# Altium footprint library T35_V2.PcbLib: 35 footprints (part 2 of 3)
Each footprint in its own frame and in the unit in brackets; x right, y up, seen from the top. Pads: shape width x height; smd on the part's side, far side on the other; paste and mask are expansions set on the pad; w line width, h text height; cw(c..) or ccw(c..) is an arc to the next point about the centre after c.
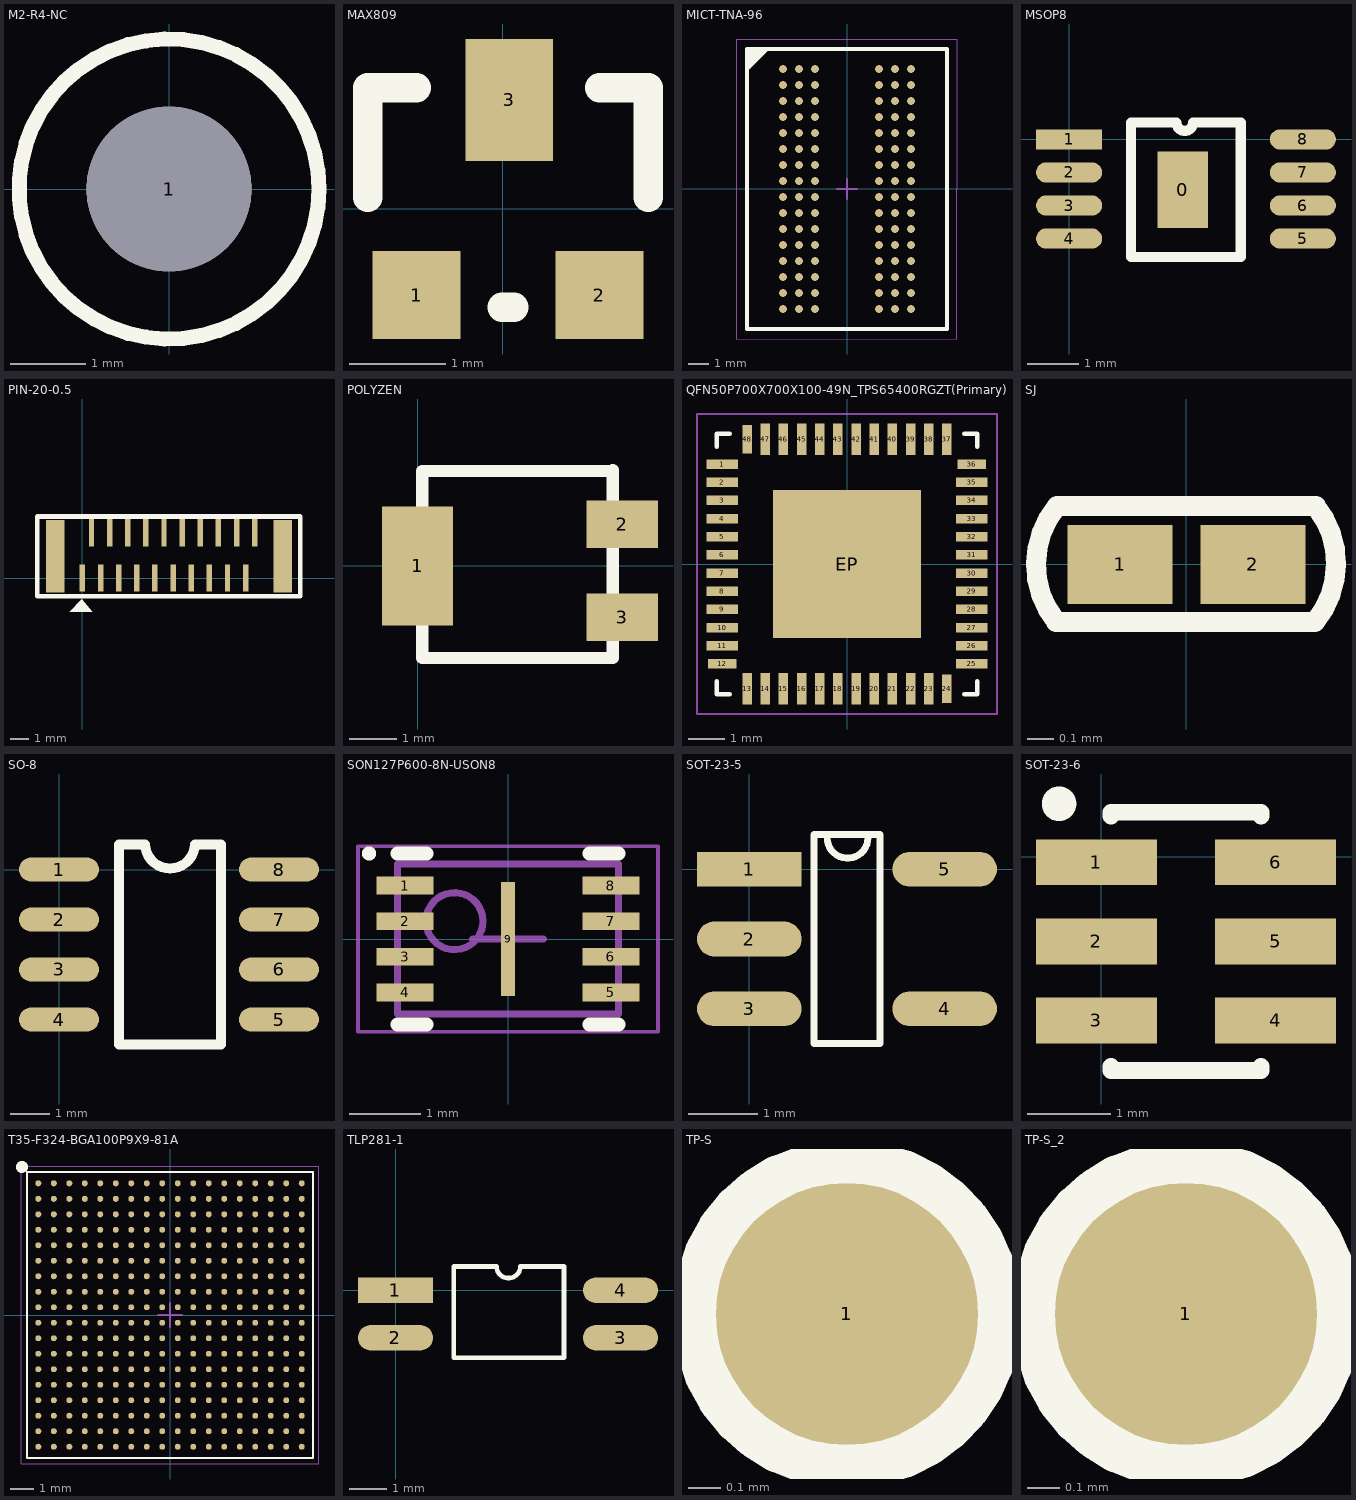
[diagram p1: the footprints below, top view; thin cyan lines are the x and y axes]

## M2-R4-NC [mm]
height 1.2
pads (1):
  round 2.2 hole 2.2: 1(0,0)
Top Overlay:
  circle w0.2: c0,0 r2

## MAX809 [mil]
height 248.03
pads (3):
  rect 36x36 smd: 1(-35.43,-35.43) 2(39.57,-35.43)
  rect 36x50 smd: 3(2.57,44.57)
Top Overlay:
  lines w12: -55.43,4.57 -55.43,49.57 -35.43,49.57 ; -0.43,-40.43 4.57,-40.43 ; 39.57,49.57 59.57,49.57 59.57,4.57
3D body "User Library-SOT23-2.STEP": height 42.52, standoff 0, extent -56.48,-41.4 61.63,62.54

## MICT-TNA-96 [mm] "BGA, 96-Balls, Body 14x10mm, Pitch 0.8mm"
pads (96):
  round 0.4 smd: A1(-3.2,6) A2(-2.4,6) A3(-1.6,6) A7(1.6,6) A8(2.4,6) A9(3.2,6) B1(-3.2,5.2) B2(-2.4,5.2) B3(-1.6,5.2) B7(1.6,5.2) B8(2.4,5.2) B9(3.2,5.2) C1(-3.2,4.4) C2(-2.4,4.4) C3(-1.6,4.4) C7(1.6,4.4) C8(2.4,4.4) C9(3.2,4.4) D1(-3.2,3.6) D2(-2.4,3.6) D3(-1.6,3.6) D7(1.6,3.6) D8(2.4,3.6) D9(3.2,3.6) E1(-3.2,2.8) E2(-2.4,2.8) E3(-1.6,2.8) E7(1.6,2.8) E8(2.4,2.8) E9(3.2,2.8) F1(-3.2,2) F2(-2.4,2) F3(-1.6,2) F7(1.6,2) F8(2.4,2) F9(3.2,2) G1(-3.2,1.2) G2(-2.4,1.2) G3(-1.6,1.2) G7(1.6,1.2) G8(2.4,1.2) G9(3.2,1.2) H1(-3.2,0.4) H2(-2.4,0.4) H3(-1.6,0.4) H7(1.6,0.4) H8(2.4,0.4) H9(3.2,0.4) J1(-3.2,-0.4) J2(-2.4,-0.4) J3(-1.6,-0.4) J7(1.6,-0.4) J8(2.4,-0.4) J9(3.2,-0.4) K1(-3.2,-1.2) K2(-2.4,-1.2) K3(-1.6,-1.2) K7(1.6,-1.2) K8(2.4,-1.2) K9(3.2,-1.2) L1(-3.2,-2) L2(-2.4,-2) L3(-1.6,-2) L7(1.6,-2) L8(2.4,-2) L9(3.2,-2) M1(-3.2,-2.8) M2(-2.4,-2.8) M3(-1.6,-2.8) M7(1.6,-2.8) M8(2.4,-2.8) M9(3.2,-2.8) N1(-3.2,-3.6) N2(-2.4,-3.6) N3(-1.6,-3.6) N7(1.6,-3.6) N8(2.4,-3.6) N9(3.2,-3.6) P1(-3.2,-4.4) P2(-2.4,-4.4) P3(-1.6,-4.4) P7(1.6,-4.4) P8(2.4,-4.4) P9(3.2,-4.4) R1(-3.2,-5.2) R2(-2.4,-5.2) R3(-1.6,-5.2) R7(1.6,-5.2) R8(2.4,-5.2) R9(3.2,-5.2) T1(-3.2,-6) T2(-2.4,-6) T3(-1.6,-6) T7(1.6,-6) T8(2.4,-6) T9(3.2,-6)
Top Overlay:
  region: -4,7 -5,6 -5,7
  lines w0.2: -5,6 -4,7 ; -5,-7 -5,7 5,7 5,-7 -5,-7
Mechanical 13:
  lines w0.1: -5,-7 -5,7 5,7 5,-7 -5,-7
Mechanical 15:
  lines w0.05: -5.5,-7.5 -5.5,7.5 5.5,7.5 5.5,-7.5 -5.5,-7.5
  lines w0.1: -0.5,0 0.5,0 ; 0,-0.5 0,0.5
3D body: height 0.25, standoff 0, extent -5,-7 5,7

## MSOP8 [mm]
pads (9):
  rect 1x1.5 smd: 0(2.235,-0.991)
  rect 1.3x0.4 smd: 1(0,0)
  oval 1.3x0.4 smd: 2(0,-0.65) 3(0,-1.3) 4(0,-1.95) 5(4.6,-1.95) 6(4.6,-1.3) 7(4.6,-0.65) 8(4.6,0)
Top Overlay:
  lines w0.2: 1.219,0.325 1.219,-2.311 3.378,-2.311 3.378,0.325 ; 1.219,0.33 2.108,0.33 ; 2.113,0.33 ccw(c2.276,0.33) 2.438,0.33 3.378,0.33
3D body "User Library-User Library-MSOP-8-1.STEP": height 0.92, standoff 0, extent -0.239,-2.465 4.761,0.535

## PIN-20-0.5 [mm]
pads (22):
  rect 0.3x1.5 smd: 1(0,0) 2(0.5,2.5) 3(1,0) 4(1.5,2.5) 5(2,0) 6(2.5,2.5) 7(3,0) 8(3.5,2.5) 9(4,0) 10(4.5,2.5) 11(5,0) 12(5.5,2.5) 13(6,0) 14(6.5,2.5) 15(7,0) 16(7.5,2.5) 17(8,0) 18(8.5,2.5) 19(9,0) 20(9.5,2.5)
  rect 1x4 smd: ""(-1.5,1.2) ""(11.049,1.194)
Top Overlay:
  region: -0.025,-1.156 -0.711,-1.841 0.533,-1.841
  lines w0.254: -2.489,-1 -2.489,3.4 12.014,3.4 12.014,-1 -2.489,-1
3D body "62674201121alf.stp": height 4.03, standoff -0.07, extent -2.5,-0.353 12,3.047

## POLYZEN [mm]
pads (3):
  rect 1.5x2.5 smd: 1(0,0)
  rect 1.5x1 smd: 2(4.3,0.875) 3(4.3,-1.075)
Top Overlay:
  lines w0.254: 4.1,-1.93 4.1,2.01 4.08,1.99 0.1,1.99 0.1,-1.93 4.1,-1.93 ; 4.1,-1.93 4.1,-1.93
3D body "PolyZen.STEP": height 2, standoff 0, extent 0.06,-1.88 4.06,2.12

## QFN50P700X700X100-49N_TPS65400RGZT(Primary) [mm]
pads (49):
  rect 0.88x0.26 smd mask+0.025: 1(-3.435,2.75) 2(-3.435,2.25) 3(-3.435,1.75) 4(-3.435,1.25) 5(-3.435,0.75) 6(-3.435,0.25) 7(-3.435,-0.25) 8(-3.435,-0.75) 9(-3.435,-1.25) 10(-3.435,-1.75) 11(-3.435,-2.25) 25(3.435,-2.75) 26(3.435,-2.25) 27(3.435,-1.75) 28(3.435,-1.25) 29(3.435,-0.75) 30(3.435,-0.25) 31(3.435,0.25) 32(3.435,0.75) 33(3.435,1.25) 34(3.435,1.75) 35(3.435,2.25)
  rect 0.78x0.26 smd mask+0.025: 12(-3.435,-2.75) 36(3.435,2.75)
  rect 0.26x0.88 smd mask+0.025: 13(-2.75,-3.435) 14(-2.25,-3.435) 15(-1.75,-3.435) 16(-1.25,-3.435) 17(-0.75,-3.435) 18(-0.25,-3.435) 19(0.25,-3.435) 20(0.75,-3.435) 21(1.25,-3.435) 22(1.75,-3.435) 23(2.25,-3.435) 37(2.75,3.435) 38(2.25,3.435) 39(1.75,3.435) 40(1.25,3.435) 41(0.75,3.435) 42(0.25,3.435) 43(-0.25,3.435) 44(-0.75,3.435) 45(-1.25,3.435) 46(-1.75,3.435) 47(-2.25,3.435)
  rect 0.26x0.78 smd mask+0.025: 24(2.75,-3.435) 48(-2.75,3.435)
  rect 4.08x4.08 smd mask+0.025: EP(0,0)
Top Overlay:
  lines w0.127: -3.581,-3.226 -3.581,-3.581 -3.226,-3.581 ; -3.581,3.226 -3.581,3.581 -3.226,3.581 ; 3.226,-3.581 3.581,-3.581 3.581,-3.226 ; 3.226,3.581 3.581,3.581 3.581,3.226
Top Paste:
  region: -1.295,1.29 1.29,1.29 1.29,-1.295 -1.295,-1.295
Mechanical 4:
  lines w0.05: -4.13,-4.13 4.13,-4.13 4.13,4.13 -4.13,4.13 -4.13,-4.13
3D body: height 1, standoff 0, extent -3.5,-3.5 3.5,3.5

## SJ [mm]
pads (2):
  rect 0.4x0.3 smd mask+0.05: 1(-0.253,0) 2(0.253,0)
Top Overlay:
  lines w0.076: -0.497,-0.219 cw(c-0.224,0) -0.494,0.223 ; -0.494,-0.218 0.49,-0.219 ccw(c0.22,0.004) 0.493,0.222 -0.493,0.222
Top Solder:
  rectangle: -0.025,-0.199 0.037,0.199

## SO-8 [mil] "AD829,24C02,EPCS1"
pads (8):
  oval 80x24 smd: 1(0,0) 2(0,-50) 3(0,-100) 4(0,-150) 5(220,-150) 6(220,-100) 7(220,-50) 8(220,0)
Top Overlay:
  lines w10: 60,-175 162,-175 162,25 136,25 cw(c111,26) 86.02,25 60,25 60,-175
3D body "SOIC8.STEP": height 62.99, standoff 0, extent -9,-173.82 228.87,23.82

## SON127P600-8N-USON8 [mm] "GD25Q32-USON8 (3x2mm, 0.45mm thickness)"
height 0.5
pads (9):
  rect 0.8x0.25 smd: 1(-1.445,0.75) 2(-1.445,0.25) 3(-1.445,-0.25) 4(-1.445,-0.75) 5(1.445,-0.75) 6(1.445,-0.25) 7(1.445,0.25) 8(1.445,0.75)
  rect 0.2x1.6 smd: 9(0,0)
Top Overlay:
  circle w0.1: c-1.95,1.2 r0.05
  lines w0.2: -1.55,-1.2 -1.145,-1.2 ; -1.55,1.2 -1.145,1.2 ; 1.145,-1.2 1.55,-1.2 ; 1.145,1.2 1.55,1.2
Mechanical 13:
  circle w0.1: c-0.75,0.25 r0.4
  lines w0.1: -1.55,-1.05 -1.55,1.05 1.55,1.05 1.55,-1.05 -1.55,-1.05
Mechanical 15:
  lines w0.05: -2.105,-1.3 -2.105,1.3 2.105,1.3 2.105,-1.3 -2.105,-1.3
  lines w0.1: -0.5,0 0.5,0 ; 0,-0.5 0,0.5
3D body "SON127P600-8N.step": height 0.5, standoff 0, extent -1.57,-1.05 1.57,1.05

## SOT-23-5 [mm]
pads (5):
  rect 1.5x0.5 smd: 1(0,0)
  oval 1.5x0.5 smd: 2(0,-1) 3(0,-2) 4(2.8,-2) 5(2.8,0)
Top Overlay:
  lines w0.1: 1.117,0.45 ccw(c1.408,0.45) 1.7,0.45 ; 1.15,0.5 1.585,0.5 ; 0.925,-2.5 0.925,0.5 1.875,0.5 1.875,-2.5 1.585,-2.5 0.925,-2.5
3D body "SOT23-5-2.STEP": height 1.45, standoff 0, extent -0.01,-2.45 2.79,0.45

## SOT-23-6 [mm]
pads (6):
  rect 1.45x0.55 smd: 1(-0.059,-0.066) 2(-0.059,-1.016) 3(-0.059,-1.966) 4(2.091,-1.966) 5(2.091,-1.016) 6(2.091,-0.066)
Top Overlay:
  circle w0.254: c-0.508,0.635 r0.08
  lines w0.2: 0.116,-2.516 0.116,-2.566 1.916,-2.566 1.916,-2.516 ; 0.116,0.484 0.116,0.534 1.916,0.534 1.916,0.484
3D body "User Library-SOT-23-6.STEP": height 1.08, standoff -0.01, extent -0.216,-2.413 2.21,0.381

## T35-F324-BGA100P9X9-81A [mm]
height 0.97
pads (324):
  round 0.25 smd: A1(-5.525,5.525) A2(-4.875,5.525) A3(-4.225,5.525) A4(-3.575,5.525) A5(-2.925,5.525) A6(-2.275,5.525) A7(-1.625,5.525) A8(-0.975,5.525) A9(-0.325,5.525) A10(0.325,5.525) A11(0.975,5.525) A12(1.625,5.525) A13(2.275,5.525) A14(2.925,5.525) A15(3.575,5.525) A16(4.225,5.525) A17(4.875,5.525) A18(5.525,5.525) B1(-5.525,4.875) B2(-4.875,4.875) B3(-4.225,4.875) B4(-3.575,4.875) B5(-2.925,4.875) B6(-2.275,4.875) B7(-1.625,4.875) B8(-0.975,4.875) B9(-0.325,4.875) B10(0.325,4.875) B11(0.975,4.875) B12(1.625,4.875) B13(2.275,4.875) B14(2.925,4.875) B15(3.575,4.875) B16(4.225,4.875) B17(4.875,4.875) B18(5.525,4.875) C1(-5.525,4.225) C2(-4.875,4.225) C3(-4.225,4.225) C4(-3.575,4.225) C5(-2.925,4.225) C6(-2.275,4.225) C7(-1.625,4.225) C8(-0.975,4.225) C9(-0.325,4.225) C10(0.325,4.225) C11(0.975,4.225) C12(1.625,4.225) C13(2.275,4.225) C14(2.925,4.225) C15(3.575,4.225) C16(4.225,4.225) C17(4.875,4.225) C18(5.525,4.225) D1(-5.525,3.575) D2(-4.875,3.575) D3(-4.225,3.575) D4(-3.575,3.575) D5(-2.925,3.575) D6(-2.275,3.575) D7(-1.625,3.575) D8(-0.975,3.575) D9(-0.325,3.575) D10(0.325,3.575) D11(0.975,3.575) D12(1.625,3.575) D13(2.275,3.575) D14(2.925,3.575) D15(3.575,3.575) D16(4.225,3.575) D17(4.875,3.575) D18(5.525,3.575) E1(-5.525,2.925) E2(-4.875,2.925) E3(-4.225,2.925) E4(-3.575,2.925) E5(-2.925,2.925) E6(-2.275,2.925) E7(-1.625,2.925) E8(-0.975,2.925) E9(-0.325,2.925) E10(0.325,2.925) E11(0.975,2.925) E12(1.625,2.925) E13(2.275,2.925) E14(2.925,2.925) E15(3.575,2.925) E16(4.225,2.925) E17(4.875,2.925) E18(5.525,2.925) F1(-5.525,2.275) F2(-4.875,2.275) F3(-4.225,2.275) F4(-3.575,2.275) F5(-2.925,2.275) F6(-2.275,2.275) F7(-1.625,2.275) F8(-0.975,2.275) F9(-0.325,2.275) F10(0.325,2.275) F11(0.975,2.275) F12(1.625,2.275) F13(2.275,2.275) F14(2.925,2.275) F15(3.575,2.275) F16(4.225,2.275) F17(4.875,2.275) F18(5.525,2.275) G1(-5.525,1.625) G2(-4.875,1.625) G3(-4.225,1.625) G4(-3.575,1.625) G5(-2.925,1.625) G6(-2.275,1.625) G7(-1.625,1.625) G8(-0.975,1.625) G9(-0.325,1.625) G10(0.325,1.625) G11(0.975,1.625) G12(1.625,1.625) G13(2.275,1.625) G14(2.925,1.625) G15(3.575,1.625) G16(4.225,1.625) G17(4.875,1.625) G18(5.525,1.625) H1(-5.525,0.975) H2(-4.875,0.975) H3(-4.225,0.975) H4(-3.575,0.975) H5(-2.925,0.975) H6(-2.275,0.975) H7(-1.625,0.975) H8(-0.975,0.975) H9(-0.325,0.975) H10(0.325,0.975) H11(0.975,0.975) H12(1.625,0.975) H13(2.275,0.975) H14(2.925,0.975) H15(3.575,0.975) H16(4.225,0.975) H17(4.875,0.975) H18(5.525,0.975) J1(-5.525,0.325) J2(-4.875,0.325) J3(-4.225,0.325) J4(-3.575,0.325) J5(-2.925,0.325) J6(-2.275,0.325) J7(-1.625,0.325) J8(-0.975,0.325) J9(-0.325,0.325) J10(0.325,0.325) J11(0.975,0.325) J12(1.625,0.325) J13(2.275,0.325) J14(2.925,0.325) J15(3.575,0.325) J16(4.225,0.325) J17(4.875,0.325) J18(5.525,0.325) K1(-5.525,-0.325) K2(-4.875,-0.325) K3(-4.225,-0.325) K4(-3.575,-0.325) K5(-2.925,-0.325) K6(-2.275,-0.325) K7(-1.625,-0.325) K8(-0.975,-0.325) K9(-0.325,-0.325) K10(0.325,-0.325) K11(0.975,-0.325) K12(1.625,-0.325) K13(2.275,-0.325) K14(2.925,-0.325) K15(3.575,-0.325) K16(4.225,-0.325) K17(4.875,-0.325) K18(5.525,-0.325) L1(-5.525,-0.975) L2(-4.875,-0.975) L3(-4.225,-0.975) L4(-3.575,-0.975) L5(-2.925,-0.975) L6(-2.275,-0.975) L7(-1.625,-0.975) L8(-0.975,-0.975) L9(-0.325,-0.975) L10(0.325,-0.975) L11(0.975,-0.975) L12(1.625,-0.975) L13(2.275,-0.975) L14(2.925,-0.975) L15(3.575,-0.975) L16(4.225,-0.975) L17(4.875,-0.975) L18(5.525,-0.975) M1(-5.525,-1.625) M2(-4.875,-1.625) M3(-4.225,-1.625) M4(-3.575,-1.625) M5(-2.925,-1.625) M6(-2.275,-1.625) M7(-1.625,-1.625) M8(-0.975,-1.625) M9(-0.325,-1.625) M10(0.325,-1.625) M11(0.975,-1.625) M12(1.625,-1.625) M13(2.275,-1.625) M14(2.925,-1.625) M15(3.575,-1.625) M16(4.225,-1.625) M17(4.875,-1.625) M18(5.525,-1.625) N1(-5.525,-2.275) N2(-4.875,-2.275) N3(-4.225,-2.275) N4(-3.575,-2.275) N5(-2.925,-2.275) N6(-2.275,-2.275) N7(-1.625,-2.275) N8(-0.975,-2.275) N9(-0.325,-2.275) N10(0.325,-2.275) N11(0.975,-2.275) N12(1.625,-2.275) N13(2.275,-2.275) N14(2.925,-2.275) N15(3.575,-2.275) N16(4.225,-2.275) N17(4.875,-2.275) N18(5.525,-2.275) P1(-5.525,-2.925) P2(-4.875,-2.925) P3(-4.225,-2.925) P4(-3.575,-2.925) P5(-2.925,-2.925) P6(-2.275,-2.925) P7(-1.625,-2.925) P8(-0.975,-2.925) P9(-0.325,-2.925) P10(0.325,-2.925) P11(0.975,-2.925) P12(1.625,-2.925) P13(2.275,-2.925) P14(2.925,-2.925) P15(3.575,-2.925) P16(4.225,-2.925) P17(4.875,-2.925) P18(5.525,-2.925) R1(-5.525,-3.575) R2(-4.875,-3.575) R3(-4.225,-3.575) R4(-3.575,-3.575) R5(-2.925,-3.575) R6(-2.275,-3.575) R7(-1.625,-3.575) R8(-0.975,-3.575) R9(-0.325,-3.575) R10(0.325,-3.575) R11(0.975,-3.575) R12(1.625,-3.575) R13(2.275,-3.575) R14(2.925,-3.575) R15(3.575,-3.575) R16(4.225,-3.575) R17(4.875,-3.575) R18(5.525,-3.575) T1(-5.525,-4.225) T2(-4.875,-4.225) T3(-4.225,-4.225) T4(-3.575,-4.225) T5(-2.925,-4.225) T6(-2.275,-4.225) T7(-1.625,-4.225) T8(-0.975,-4.225) T9(-0.325,-4.225) T10(0.325,-4.225) T11(0.975,-4.225) T12(1.625,-4.225) T13(2.275,-4.225) T14(2.925,-4.225) T15(3.575,-4.225) T16(4.225,-4.225) T17(4.875,-4.225) T18(5.525,-4.225) U1(-5.525,-4.875) U2(-4.875,-4.875) U3(-4.225,-4.875) U4(-3.575,-4.875) U5(-2.925,-4.875) U6(-2.275,-4.875) U7(-1.625,-4.875) U8(-0.975,-4.875) U9(-0.325,-4.875) U10(0.325,-4.875) U11(0.975,-4.875) U12(1.625,-4.875) U13(2.275,-4.875) U14(2.925,-4.875) U15(3.575,-4.875) U16(4.225,-4.875) U17(4.875,-4.875) U18(5.525,-4.875) V1(-5.525,-5.525) V2(-4.875,-5.525) V3(-4.225,-5.525) V4(-3.575,-5.525) V5(-2.925,-5.525) V6(-2.275,-5.525) V7(-1.625,-5.525) V8(-0.975,-5.525) V9(-0.325,-5.525) V10(0.325,-5.525) V11(0.975,-5.525) V12(1.625,-5.525) V13(2.275,-5.525) V14(2.925,-5.525) V15(3.575,-5.525) V16(4.225,-5.525) V17(4.875,-5.525) V18(5.525,-5.525)
Top Overlay:
  circle w0.25: c-6.21,6.21 r0.125
  lines w0.1: -6,-6 -6,6 6,6 6,-6 -6,-6
Mechanical 15:
  lines w0.05: -6.25,-6.25 -6.25,6.25 6.25,6.25 6.25,-6.25 -6.25,-6.25
  lines w0.1: -0.5,0 0.5,0 ; 0,-0.5 0,0.5
3D body "T35-F324-BGA100P9X9-81A.step": height 0.97, standoff 0, extent -6,-6 6,6

## TLP281-1 [mm]
pads (4):
  rect 2x0.686 smd: 1(-0.002,-0.004)
  oval 2x0.686 smd: 2(-0.002,-1.274) 3(6,-1.274) 4(6,-0.004)
Top Overlay:
  lines w0.127: 2.692,0.631 1.549,0.631 1.549,-1.803 4.496,-1.803 4.496,0.631 3.327,0.631 ; 2.692,0.635 ccw(c3.01,0.635) 3.327,0.635
3D body "tlp281.STEP": height 2, standoff -0.15, extent -0.605,-1.859 6.498,0.741

## TP-S [mm]
pads (1):
  round 0.8 smd: 1(0,0)
Top Overlay:
  circle w0.152: c0,0 r0.457

## TP-S_2 [mm]
pads (1):
  round 0.8 smd: 1(0,0)
Top Overlay:
  circle w0.152: c0,0 r0.457